# EAGLE library part ADG3308 (library hurst)
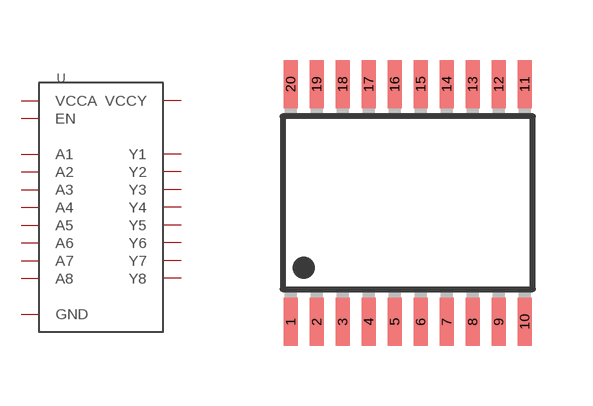
[diagram p5: symbol with the pads of TSSOP20; footprint TSSOP20]

Designator prefix -

## ADG3308  [TSSOP20]
1  VCCA
2  A1
3  A2
4  A3
5  A4
6  A5
7  A6
8  A7
9  A8
10  EN
11  GND
12  Y8
13  Y7
14  Y6
15  Y5
16  Y4
17  Y3
18  Y2
19  Y1
20  VCCY

## Footprint TSSOP20 (pad centres in mm)
smd 0.35 x 1.2: 1 -2.275,-2.97; 2 -1.625,-2.97; 3 -0.975,-2.97; 4 -0.325,-2.97; 5 0.325,-2.97; 6 0.975,-2.97; 7 1.625,-2.97; 8 2.275,-2.97; 9 2.925,-2.97; 10 3.575,-2.97; 11 3.575,2.97; 12 2.925,2.97; 13 2.275,2.97; 14 1.625,2.97; 15 0.975,2.97; 16 0.325,2.97; 17 -0.325,2.97; 18 -0.975,2.97; 19 -1.625,2.97; 20 -2.275,2.97